# Altium footprint library Transformator.PcbLib: 59 footprints (part 1 of 4)
Each footprint in its own frame and in the unit in brackets; x right, y up, seen from the top. Pads: shape width x height; smd on the part's side, far side on the other; paste and mask are expansions set on the pad; w line width, h text height; cw(c..) or ccw(c..) is an arc to the next point about the centre after c.
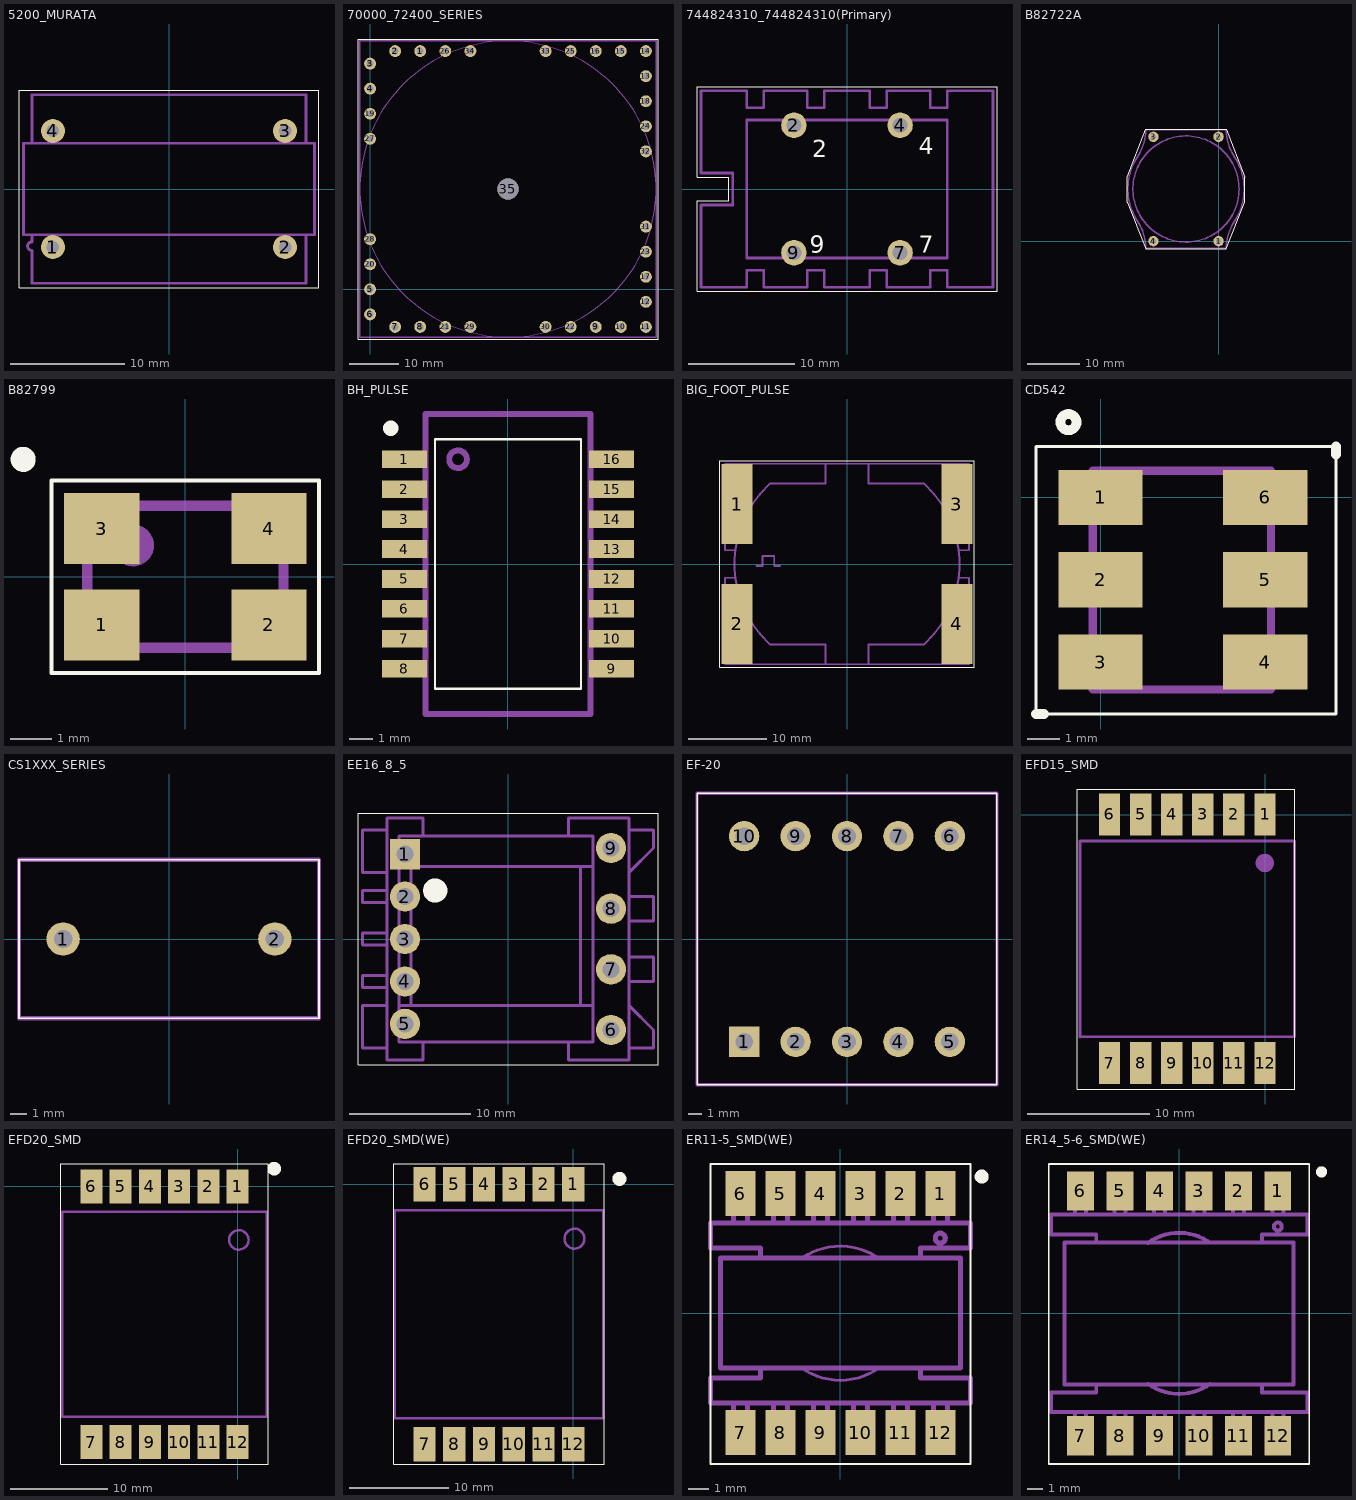
[diagram p0: the footprints below, top view; thin cyan lines are the x and y axes]

## 5200_MURATA [mm]
pads (4):
  round 2.1 hole 1.1: 1(-10.16,-5.08) 2(10.16,-5.08) 3(10.16,5.08) 4(-10.16,5.08)
Top Overlay:
  lines w0.1: -13.13,-8.63 13.13,-8.63 13.13,8.63 -13.13,8.63 -13.13,-8.63
Mechanical 1:
  lines w0.25: -12,-4 -12,-4.625 ccw(c-12,-5) -12,-5.375 -12,-8.25 12,-8.25 12,-4 ; -12,4 -12,8.25 12,8.25 12,4 ; -12.75,-4 12.75,-4 12.75,4 -12.75,4 -12.75,-4

## 70000_72400_SERIES [mm]
pads (35):
  round 2.4 hole 1.4: 1(10.16,48.26) 2(5.08,48.26) 3(0,45.72) 4(0,40.64) 5(0,0) 6(0,-5.08) 7(5.08,-7.62) 8(10.16,-7.62) 9(45.72,-7.62) 10(50.8,-7.62) 11(55.88,-7.62) 12(55.88,-2.54) 13(55.88,43.18) 14(55.88,48.26) 15(50.8,48.26) 16(45.72,48.26) 17(55.88,2.54) 18(55.88,38.1) 19(0,35.56) 20(0,5.08) 21(15.24,-7.62) 22(40.64,-7.62) 23(55.88,7.62) 24(55.88,33.02) 25(40.64,48.26) 26(15.24,48.26) 27(0,30.48) 28(0,10.16) 29(20.32,-7.62) 30(35.56,-7.62) 31(55.88,12.7) 32(55.88,27.94) 33(35.56,48.26) 34(20.32,48.26)
  round 4.3 hole 4.3: 35(27.94,20.32)
Top Overlay:
  lines w0.1: -2.44,-10.06 58.32,-10.06 58.32,50.7 -2.44,50.7 -2.44,-10.06
Mechanical 1:
  circle w0.25: c27.94,20.32 r30
  lines w0.254: -2.06,-9.68 57.94,-9.68 57.94,50.32 -2.06,50.32 -2.06,-9.68

## 744824310_744824310(Primary) [mm]
pads (4):
  round 2.4 hole 1.4: 2(-5,6) 4(5,6) 7(5,-6) 9(-5,-6)
Top Overlay:
  lines w0.1: -14.13,-9.63 14.13,-9.63 14.13,9.63 -14.13,9.63 -14.13,1.12 -11.13,1.12 -11.13,-1.12 -14.13,-1.12 -14.13,-9.63
  text "7" at 6.75,-6 h1.63
  text "4" at 6.75,3.25 h1.63
  text "9" at -3.5,-6 h1.63
  text "2" at -3.25,3 h1.63
Mechanical 1:
  lines w0.25: -13.75,-9.25 -13.75,-1.5 -10.75,-1.5 -10.75,1.5 -13.75,1.5 -13.75,9.25 -9.45,9.25 -9.45,7.65 -7.85,7.65 -7.85,9.25 -3.75,9.25 -3.75,7.65 -2.15,7.65 -2.15,9.25 2.15,9.25 2.15,7.65 3.75,7.65 3.75,9.25 7.85,9.25 7.85,7.65 9.45,7.65 9.45,9.25 13.75,9.25 13.75,-9.25 9.45,-9.25 9.45,-7.65 7.85,-7.65 7.85,-9.25 3.75,-9.25 3.75,-7.65 2.15,-7.65 2.15,-9.25 -2.15,-9.25 -2.15,-7.65 -3.75,-7.65 -3.75,-9.25 -7.85,-9.25 -7.85,-7.65 -9.45,-7.65 -9.45,-9.25 -13.75,-9.25 ; -9.45,-6.5 9.45,-6.5 9.45,6.5 -9.45,6.5 -9.45,-6.5

## B82722A [mm]
pads (4):
  round 2 hole 1: 1(0,0) 2(0,20) 3(-12.5,20) 4(-12.5,0)
Top Overlay:
  lines w0.1: -17.5,7.5 -14,-1.5 1.5,-1.5 5,7.5 5,12.25 1.5,21.5 -14,21.5 -17.5,12.25 -17.5,7.5
Mechanical 1:
  circle w0.25: c-6.252,9.999 r10.186
  circle w0.25: c-12.502,19.999 r0.5
  circle w0.25: c-12.502,-0.001 r0.5
  circle w0.25: c-0.002,19.999 r0.5
  circle w0.25: c-0.002,-0.001 r0.5
  lines w0.25: -15.603,3.926 cw(c-6.252,9.999) -15.593,16.088 ; -15.597,16.081 ccw(c-24.465,21.84) -13.957,20.661 ; -15.587,3.901 cw(c-24.465,-1.842) -13.955,-0.682 ; -13.956,-0.676 -13.956,-1.351 -6.252,-1.351 1.452,-1.351 1.452,-0.676 ; -13.956,20.674 -13.956,21.349 -6.252,21.349 1.452,21.349 1.452,20.674 ; 1.451,20.679 ccw(c11.961,21.84) 3.083,16.096 ; 1.453,-0.664 cw(c11.961,-1.842) 3.093,3.917 ; 3.089,3.91 ccw(c-6.252,9.999) 3.099,16.072

## B82799 [mm]
pads (4):
  rect 1.8x1.7 smd: 1(-2,-1.15) 2(2,-1.15) 3(-2,1.15) 4(2,1.15)
Top Overlay:
  circle w0.4: c-3.88,2.81 r0.1
  lines w0.1: -3.2,-2.3 3.2,-2.3 3.2,2.3 -3.2,2.3 -3.2,1.5 -3.2,-0.8 -3.2,-2.3
Mechanical 1:
  circle w0.5: c-1.25,0.75 r0.25
  lines w0.25: -2.35,-1.7 2.35,-1.7 2.35,1.7 -2.35,1.7 -2.35,-1.7

## BH_PULSE [mm]
pads (16):
  rect 1.9x0.75 smd: 1(-4.4,4.445) 2(-4.4,3.175) 3(-4.4,1.905) 4(-4.4,0.635) 5(-4.4,-0.635) 6(-4.4,-1.905) 7(-4.4,-3.175) 8(-4.4,-4.445) 9(4.4,-4.445) 10(4.4,-3.175) 11(4.4,-1.905) 12(4.4,-0.635) 13(4.4,0.635) 14(4.4,1.905) 15(4.4,3.175) 16(4.4,4.445)
Top Overlay:
  circle w0.45: c-4.985,5.77 r0.1
  lines w0.1: -3.1,-5.3 3.1,-5.3 3.1,5.3 -3.1,5.3 -3.1,-5.3
Mechanical 1:
  circle w0.25: c-2.125,4.45 r0.375
  lines w0.25: -3.5,-6.375 3.5,-6.375 3.5,6.375 -3.5,6.375 -3.5,-6.375

## BIG_FOOT_PULSE [mm]
pads (4):
  rect 3.95x10.2 smd: 1(-13.975,7.625) 2(-13.975,-7.625) 3(13.975,7.625) 4(13.975,-7.625)
Top Overlay:
  lines w0.1: -16.2,-13.13 16.2,-13.13 16.2,13.13 -16.2,13.13 -16.2,-13.13
  text "3" at 13.25,9 h1.5
  text "4" at 13.5,-11 h1.5
  text "1" at -13.5,9 h1.5
  text "2" at -13.25,-11 h1.5
Mechanical 1:
  lines w0.25: -14.25,-1.75 -15.5,-1.75 -15.5,-12.75 15.5,-12.75 15.5,-1.75 14.25,-1.75 ; -14.25,1.75 -15.5,1.75 -15.5,12.75 15.5,12.75 15.5,1.75 14.25,1.75 ; -11.5,-0.25 -10.75,-0.25 -10.75,1 -9.25,1 -9.25,-0.25 -8.5,-0.25 ; -9.756,-10.244 cw(c-0.5,0) -9.756,10.244 ; -9.75,-10.25 -2.75,-10.25 -2.75,-12.75 ; -9.75,10.25 -2.75,10.25 -2.75,12.75 ; 2.75,-12.75 2.75,-10.25 9.75,-10.25 ; 2.75,12.75 2.75,10.25 9.75,10.25 ; 9.756,-10.244 ccw(c0.5,0) 9.756,10.244

## CD542 [mm]
pads (6):
  rect 2.6x1.7 smd: 1(0,0) 2(0,-2.54) 3(0,-5.08) 4(5.08,-5.08) 5(5.08,-2.54) 6(5.08,0)
Top Overlay:
  lines w0.1: -1.99,-6.68 -1.99,1.57 7.26,1.57 ; -1.74,-6.68 7.26,-6.68 7.26,1.32
  lines w0.3: -1.99,-6.68 -1.74,-6.68 ; 7.26,1.32 7.26,1.57 ; -1.24,2.32 cw(c-0.99,2.32) -0.74,2.32 cw(c-0.99,2.32) -1.24,2.32
Mechanical 1:
  lines w0.25: -0.24,-5.93 5.26,-5.93 5.26,0.82 -0.24,0.82 -0.24,-5.93
  lines w0.3: -0.24,-5.43 -0.74,-5.43 -0.74,-4.68 -0.24,-4.68 ; -0.24,-2.93 -0.74,-2.93 -0.74,-2.18 -0.24,-2.18 ; -0.24,-0.43 -0.74,-0.43 -0.74,0.32 -0.49,0.32 -0.24,0.32 ; 5.26,-5.43 5.76,-5.43 5.76,-4.68 5.26,-4.68 ; 5.26,-2.93 5.76,-2.93 5.76,-2.18 5.26,-2.18 ; 5.26,-0.43 5.76,-0.43 5.76,0.32 5.26,0.32 ; 0.51,0.07 cw(c0.76,0.07) 1.01,0.07 cw(c0.76,0.07) 0.51,0.07

## CS1XXX_SERIES [mm]
pads (2):
  round 2 hole 1.1: 1(-6.35,0) 2(6.35,0)
Top Overlay:
  lines w0.1: -9,-4.75 9,-4.75 9,4.75 -9,4.75 -9,-4.75
Mechanical 1:
  lines w0.25: -9,-4.75 9,-4.75 9,4.75 -9,4.75 -9,-4.75

## EE16_8_5 [mm]
pads (9):
  rect 2.5x2.5 hole 1.4: 1(-8.5,7)
  round 2.5 hole 1.4: 2(-8.5,3.5) 3(-8.5,0) 4(-8.5,-3.5) 5(-8.5,-7) 6(8.5,-7.5) 7(8.5,-2.5) 8(8.5,2.5) 9(8.5,7.5)
Top Overlay:
  circle w1: c-6,4 r0.5
  lines w0.1: -12.375,-10.375 12.375,-10.375 12.375,10.375 -12.375,10.375 -12.375,-10.375
Mechanical 1:
  lines w0.25: -10,-9 -12,-9 -12,-5.5 -10,-5.5 ; -10,-4 -12,-4 -12,-3 -10,-3 ; -10,-0.5 -12,-0.5 -12,0.5 -10,0.5 ; -10,3 -12,3 -12,4 -10,4 ; -10,5.5 -12,5.5 -12,9 -10,9 ; -9,-5.5 7,-5.5 ; -9,6 7,6 ; -8,-5.5 -8,6 ; -7,-8.5 -7,-10 -10,-10 -10,10 -7,10 -7,9.5 -7,8.5 ; 5,-8.5 5,-10 10,-10 10,10 5,10 5,8.5 ; 6,-5.5 6,6 ; 10,-9 12,-9 12,-8 12,-7.5 10,-5.5 ; 10,-3.5 12,-3.5 12,-1.5 10,-1.5 ; 10,1.5 12,1.5 12,3.5 10,3.5 ; 10,5.5 12,7.5 12,8 12,9 10,9 ; -9,-8.5 7,-8.5 7,8.5 -9,8.5 -9,-8.5

## EF-20 [mm]
pads (10):
  rect 2.25x2.25 hole 1.3: 1(-7.62,-7.62)
  round 2.25 hole 1.3: 2(-3.81,-7.62) 3(0,-7.62) 4(3.81,-7.62) 5(7.62,-7.62) 6(7.62,7.62) 7(3.81,7.62) 8(0,7.62) 9(-3.81,7.62) 10(-7.62,7.62)
Top Overlay:
  lines w0.1: -11.112,-10.795 11.112,-10.795 11.112,10.795 -11.112,10.795 -11.112,-10.795
Mechanical 1:
  lines w0.25: -11.112,-10.795 11.112,-10.795 11.112,10.795 -11.112,10.795 -11.112,-10.795

## EFD15_SMD [mm]
pads (12):
  rect 1.75x3.43 smd: 1(-0.003,0.023) 2(-2.543,0.023) 3(-5.083,0.023) 4(-7.623,0.023) 5(-10.163,0.023) 6(-12.703,0.023) 7(-12.703,-20.287) 8(-10.163,-20.287) 9(-7.623,-20.287) 10(-5.083,-20.287) 11(-2.543,-20.287) 12(-0.003,-20.287)
Top Overlay:
  lines w0.1: -15.33,-22.41 2.42,-22.41 2.42,2.09 -15.33,2.09 -15.33,-22.41
Mechanical 1:
  circle w0.75: c-0.02,-3.95 r0.375
  lines w0.25: -15.1,-18.15 -15.1,-2.15 ; -15.1,-18.14 2.4,-18.15 2.4,-2.14 ; -15.1,-2.14 2.4,-2.15

## EFD20_SMD [mm]
pads (12):
  rect 2.25x3.5 smd: 1(0,0) 2(-3,0) 3(-6,0) 4(-9,0) 5(-12,0) 6(-15,0) 7(-15,-26.2) 8(-12,-26.2) 9(-9,-26.2) 10(-6,-26.2) 11(-3,-26.2) 12(0,-26.2)
Top Overlay:
  circle w0.8: c3.74,1.82 r0.3
  lines w0.1: -18.12,-28.45 3.13,-28.45 3.13,2.3 -18.12,2.3 -18.12,-28.45
Mechanical 1:
  circle w0.25: c0.12,-5.48 r1
  lines w0.25: -18,-2.6 3,-2.6 ; -18,-2.6 3,-2.6 ; -18,-2.6 -18,-23.6 3,-23.6 ; 3,-23.6 3,-2.6 ; 3,-23.6 3,-2.6

## EFD20_SMD(WE) [mm]
pads (12):
  rect 2.25x3.5 smd: 1(0,0) 2(-3,0) 3(-6,0) 4(-9,0) 5(-12,0) 6(-15,0) 7(-15,-26.2) 8(-12,-26.2) 9(-9,-26.2) 10(-6,-26.2) 11(-3,-26.2) 12(0,-26.2)
Top Overlay:
  circle w0.8: c4.65,0.55 r0.3
  lines w0.1: -18.12,-28.2 3.13,-28.2 3.13,2.05 -18.12,2.05 -18.12,-28.2
Mechanical 1:
  circle w0.254: c0.12,-5.48 r1
  lines w0.254: -18,-23.6 3,-23.6 3,-2.6 -18,-2.6 -18,-23.6

## ER11-5_SMD(WE) [mm]
pads (12):
  rect 1.5x2.25 smd: 1(5,5.975) 2(3,5.975) 3(1,5.975) 4(-1,5.975) 5(-3,5.975) 6(-5,5.975) 7(-5,-5.975) 8(-3,-5.975) 9(-1,-5.975) 10(1,-5.975) 11(3,-5.975) 12(5,-5.975)
Top Overlay:
  circle w0.5: c7.07,6.83 r0.1
  lines w0.1: -6.5,-7.54 6.5,-7.54 6.5,7.46 -6.5,7.46 -6.5,4.46 -6.5,-7.54
Mechanical 1:
  circle w0.25: c5,3.75 r0.25
  lines w0.15: -1.971,-2.714 ccw(c0,0) 1.971,-2.714 ; -1.971,2.714 cw(c0,0) 1.802,2.829
  lines w0.25: -5.35,-4.5 -5.35,-6.5 -4.65,-6.5 -4.65,-4.5 ; -5.35,4.5 -5.35,6.5 -4.65,6.5 -4.65,4.5 ; -4,-2.75 -4,-3.25 -6.5,-3.25 -6.5,-4.5 6.5,-4.5 6.5,-3.25 4,-3.25 4,-2.75 ; -4,2.75 -4,3.25 -6.5,3.25 -6.5,4.5 6.5,4.5 6.5,3.25 4,3.25 4,2.75 ; -3.35,-4.5 -3.35,-6.5 -2.65,-6.5 -2.65,-4.5 ; -3.35,4.5 -3.35,6.5 -2.65,6.5 -2.65,4.5 ; -1.35,-4.5 -1.35,-6.5 -0.65,-6.5 -0.65,-4.5 ; -1.35,4.5 -1.35,6.5 -0.65,6.5 -0.65,4.5 ; 0.65,-4.5 0.65,-6.5 1.35,-6.5 1.35,-4.5 ; 0.65,4.5 0.65,6.5 1.35,6.5 1.35,4.5 ; 2.65,-4.5 2.65,-6.5 3.35,-6.5 3.35,-4.5 ; 2.65,4.5 2.65,6.5 3.35,6.5 3.35,4.5 ; 4.65,-4.5 4.65,-6.5 5.35,-6.5 5.35,-4.5 ; 4.65,4.5 4.65,6.5 5.35,6.5 5.35,4.5 ; -6,-2.75 6,-2.75 6,2.75 -6,2.75 -6,-2.75

## ER14_5-6_SMD(WE) [mm]
pads (12):
  rect 1.7x2.5 smd: 1(6.25,7.75) 2(3.75,7.75) 3(1.25,7.75) 4(-1.25,7.75) 5(-3.75,7.75) 6(-6.25,7.75) 7(-6.25,-7.75) 8(-3.75,-7.75) 9(-1.25,-7.75) 10(1.25,-7.75) 11(3.75,-7.75) 12(6.25,-7.75)
Top Overlay:
  circle w0.5: c9.02,8.96 r0.1
  lines w0.1: -8.25,-9.54 8.25,-9.54 8.25,9.46 -8.25,9.46 -8.25,-9.54
Mechanical 1:
  circle w0.25: c6.25,5.5 r0.25
  lines w0.25: -6.6,-6.25 -6.6,-8.25 -5.9,-8.25 -5.9,-6.25 ; -6.6,6.25 -6.6,8.25 -5.9,8.25 -5.9,6.25 ; -5.25,-4.5 -5.25,-5 -8.125,-5 -8.125,-6.25 8.125,-6.25 8.125,-5 5.25,-5 5.25,-4.5 ; -5.25,4.5 -5.25,5 -8.125,5 -8.125,6.25 8.125,6.25 8.125,5 5.25,5 5.25,4.5 ; -4.1,-6.25 -4.1,-8.25 -3.4,-8.25 -3.4,-6.25 ; -4.1,6.25 -4.1,8.25 -3.4,8.25 -3.4,6.25 ; -1.971,-4.464 ccw(c0,-1.75) 1.971,-4.464 ; -1.971,4.464 cw(c0,1.75) 1.802,4.579 ; -1.6,-6.25 -1.6,-8.25 -0.9,-8.25 -0.9,-6.25 ; -1.6,6.25 -1.6,8.25 -0.9,8.25 -0.9,6.25 ; 0.9,-6.25 0.9,-8.25 1.6,-8.25 1.6,-6.25 ; 0.9,6.25 0.9,8.25 1.6,8.25 1.6,6.25 ; 3.4,-6.25 3.4,-8.25 4.1,-8.25 4.1,-6.25 ; 3.4,6.25 3.4,8.25 4.1,8.25 4.1,6.25 ; 5.9,-6.25 5.9,-8.25 6.6,-8.25 6.6,-6.25 ; 5.9,6.25 5.9,8.25 6.6,8.25 6.6,6.25 ; -7.25,-4.5 7.25,-4.5 7.25,4.5 -7.25,4.5 -7.25,-4.5